# Altium footprint library PCB - LEADLESS - DFN - LITTELFUSE IXYS DFN-8 M 3X3.PcbLib: 1 footprints
Each footprint in its own frame and in the unit in brackets; x right, y up, seen from the top. Pads: shape width x height; smd on the part's side, far side on the other; paste and mask are expansions set on the pad; w line width, h text height; cw(c..) or ccw(c..) is an arc to the next point about the centre after c.
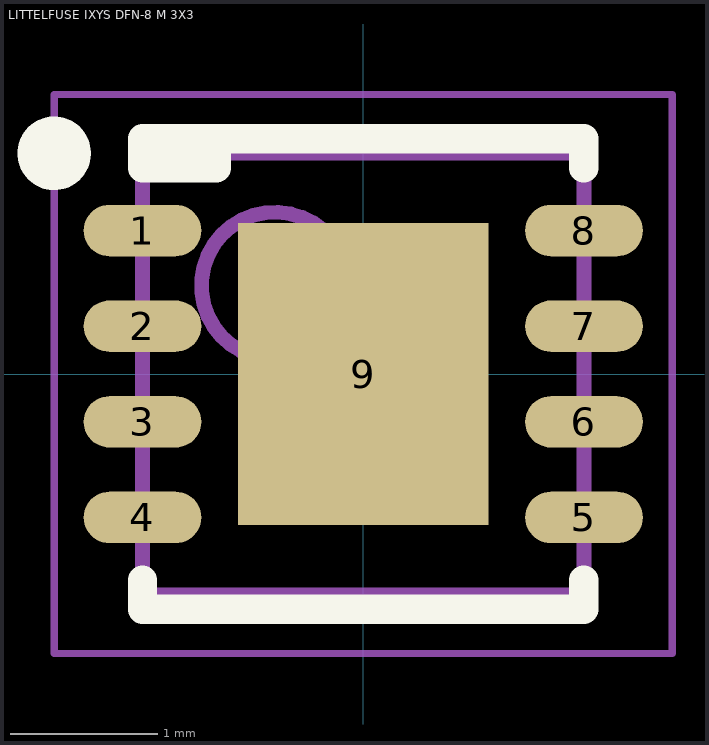
[diagram p0: the footprint, top view; thin cyan lines are the x and y axes]

## LITTELFUSE IXYS DFN-8 M 3X3 [mm] "DFN, 8-Leads, Body 3.00x3.00mm, Pitch 0.65mm, Thermal Pad 1.70x2.05mm"
height 0.9
pads (9):
  oval 0.8x0.35 smd: 1(-1.5,0.975) 2(-1.5,0.325) 3(-1.5,-0.325) 4(-1.5,-0.975) 5(1.5,-0.975) 6(1.5,-0.325) 7(1.5,0.325) 8(1.5,0.975)
  rect 1.7x2.05 smd: 9(0,0)
Top Overlay:
  circle w0.25: c-2.1,1.5 r0.125
  rectangle: -1.5,1.4 -1,1.6
  lines w0.2: -1.5,-1.4 -1.5,-1.6 1.5,-1.6 1.5,-1.4 ; -1,1.6 -1,1.4 -1.5,1.4 -1.5,1.6 1.5,1.6 1.5,1.4
Mechanical 13:
  circle w0.1: c-0.6,0.6 r0.5
  lines w0.1: -1.5,-1.5 -1.5,1.5 1.5,1.5 1.5,-1.5 -1.5,-1.5
Mechanical 15:
  lines w0.05: -2.1,-1.9 -2.1,1.9 2.1,1.9 2.1,-1.9 -2.1,-1.9
  lines w0.1: -0.5,0 0.5,0 ; 0,-0.5 0,0.5
3D body "LITTELFUSE IXYS DFN-8 M 3X3.step": height 0.9, standoff 0, extent -1.51,-1.5 1.51,1.5